# Altium schematic symbol library Sirius.SchLib: 69 symbols (part 1 of 2)
Pins are listed as number, name and electrical type; pins without a type are passive.

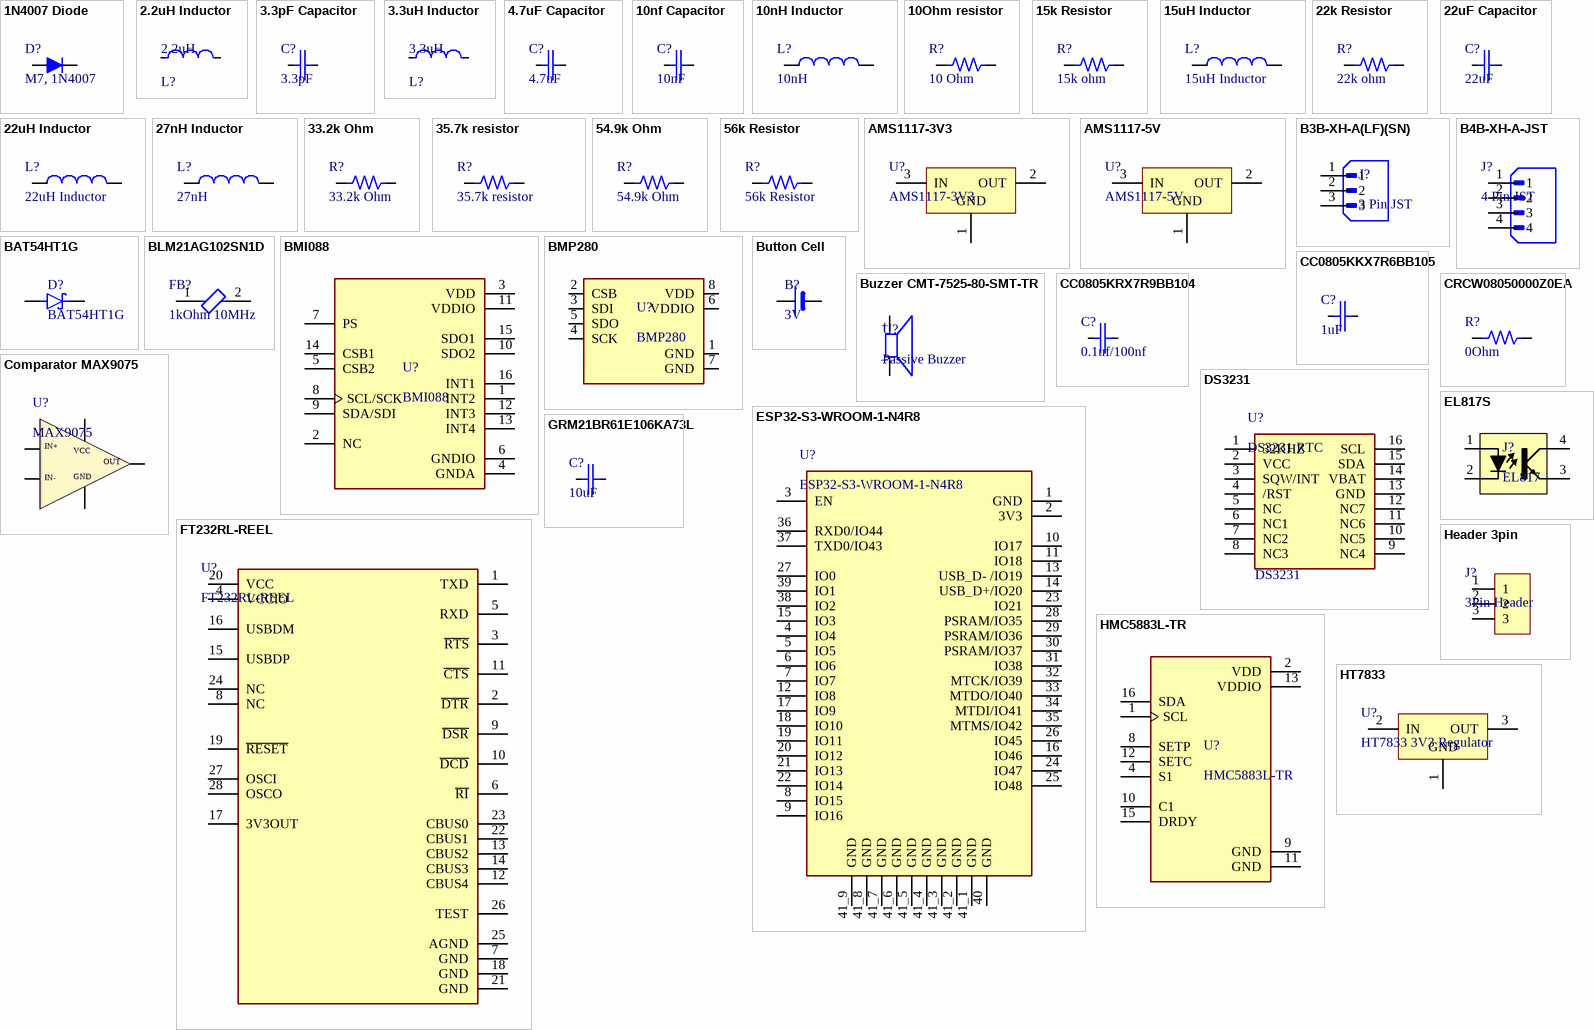
[diagram p0: symbols 1N4007 Diode to HT7833]

## 1N4007 Diode
designator D?, comment M7, 1N4007
1N4007 Diode
footprint 1N4007
pins: A, C

## 2.2uH Inductor
designator L?, comment 2.2uH
SWPA4030S2R2MT-Sunlord-2.2uH 2.95A 20% 39mOhm Shielded Wirewound Power Inductor SMD; Test Frequency: 1MHz; Max DC Current: 600mA; Core Material: Ferrite; DC Resistance (DCR): 340mR; Self Resonant Frequency: 50MHz; RoHS Compliant: Yes; Height: 0.5mm; Inductance: 2.2uH; Mount: Surface Mount; REACH SVHC: No SVHC; Width: 0.049inch; Military Standard: Not; Max Operating Temperature: 125°C; Lead Free: Lead Free; Tolerance: 20%; Series: LQM21PN_CO; Case Code (Imperial): 0805; Case Code (Metric): 2012; Length: 2mm; Package Quantity: 4000; Radiation Hardening: No; Termination: SMD/SMT; Inductance Tolerance: 20%; Rated Current-Max: 600mA; Current Rating: 600mA; Min Operating Temperature: -55°C; Case/Package: 0805; Height - Seated (Max): 0.022inch; Depth: 1.45mm; Packaging: Tape and Reel; Shielding: Shielded; DC Current: 600mA
footprint SWPA4030S (Precision Wire Wound Inductor, 2-Leads, Body 4.00x4.00mm, IPC Medium Density)
pins: 1, 2

## 3.3pF Capacitor
designator C?, comment 3.3pF
0402
footprint 3.3pF (0402)
pins: 1, 2

## 3.3uH Inductor
designator L?, comment 3.3uH
SWPA5020S3R3MT-Sunlord-3.3uH 2.5A 20% 56mOhm Shielded Wirewound Power Inductor SMD; Test Frequency: 1MHz; Inductance: 2.2uH; Max DC Current: 600mA; Core Material: Ferrite; DC Resistance (DCR): 340mR; Self Resonant Frequency: 50MHz; RoHS Compliant: Yes; Height: 0.5mm; Mount: Surface Mount; REACH SVHC: No SVHC; Width: 0.049inch; Military Standard: Not; Max Operating Temperature: 125°C; Lead Free: Lead Free; Tolerance: 20%; Series: LQM21PN_CO; Case Code (Imperial): 0805; Case Code (Metric): 2012; Length: 2mm; Package Quantity: 4000; Radiation Hardening: No; Termination: SMD/SMT; Inductance Tolerance: 20%; Rated Current-Max: 600mA; Current Rating: 600mA; Min Operating Temperature: -55°C; Case/Package: 0805; Height - Seated (Max): 0.022inch; Depth: 1.45mm; Packaging: Tape and Reel; Shielding: Shielded; DC Current: 600mA
footprint SWPA5020 (Precision Wire Wound Inductor, 2-Leads, Body 4.00x4.00mm, IPC Medium Density)
pins: 1, 2

## 4.7uF Capacitor
designator C?, comment 4.7uF
0603, 25V
footprint 1k 0805 Resistor (0805 Chip Resistor, 2-Leads, Body 2.1x1.35mm, IPC Low Density)
pins: 1, 2

## 10nf Capacitor
designator C?, comment 10nF
TCC0402X7R103J500AT-CCTC-SMT ceramic capacitors 0402 X7R 103J(10nF)±5.0% Rated voltage:50V thickness:0.50mm tape
footprint 3.3pF (0402)
pins: 1, 2

## 10nH Inductor
designator L?, comment 10nH
0402
footprint 0402 10nH (0402 10nH, INDC1005X55N)
pins: 1, 2

## 10Ohm resistor
designator R?, comment 10 Ohm
0805
footprint 1k 0805 Resistor (0805 Chip Resistor, 2-Leads, Body 2.1x1.35mm, IPC Low Density)
pins: 1, 2

## 15k Resistor
designator R?, comment 15k ohm
0805
footprint 1k 0805 Resistor (0805 Chip Resistor, 2-Leads, Body 2.1x1.35mm, IPC Low Density)
pins: 1, 2

## 15uH Inductor
designator L?
MWSA0605S
footprint 15uH Inductor (MWSA0605)
pins: 1, 2

## 22k Resistor
designator R?, comment 22k ohm
0805
footprint 1k 0805 Resistor (0805 Chip Resistor, 2-Leads, Body 2.1x1.35mm, IPC Low Density)
pins: 1, 2

## 22uF Capacitor
designator C?, comment 22uF
CL21A226KOQNNNE-Samsang-16V 22uF X5R ±10% 0805 Multilayer Ceramic Capacitors MLCC – SMD/SMT ROHS
footprint 10uf Capacitor
pins: 1, 2

## 22uH Inductor
designator L?
ASPI-0630LR-220M-T15-Abracon-22uH 2.5A 20% Molding Type Power Inductor SMD 7.2×6.65×3.0mm
footprint 22uH inductor (ASPI-0630LR-150M-T15)
pins: 1, 2

## 27nH Inductor
designator L?, comment 27nH
0402
footprint 0402 10nH (0402 10nH, INDC1005X55N)
pins: 1, 2

## 33.2k Ohm
designator R?
0805
footprint 1k 0805 Resistor (0805 Chip Resistor, 2-Leads, Body 2.1x1.35mm, IPC Low Density)
pins: 1, 2

## 35.7k resistor
designator R?
0603
footprint 1k 0805 Resistor (0805 Chip Resistor, 2-Leads, Body 2.1x1.35mm, IPC Low Density)
pins: 1, 2

## 54.9k Ohm
designator R?
0805
footprint 1k 0805 Resistor (0805 Chip Resistor, 2-Leads, Body 2.1x1.35mm, IPC Low Density)
pins: 1, 2

## 56k Resistor
designator R?
0805
footprint 1k 0805 Resistor (0805 Chip Resistor, 2-Leads, Body 2.1x1.35mm, IPC Low Density)
pins: 1, 2

## AMS1117-3V3
designator U?
SOT89
footprint AMS1117, 5V (SOT89)
pins: 1 GND (power), 2 OUT (power), 3 IN (power)

## AMS1117-5V
designator U?
SOT89
footprint AMS1117, 5V (SOT89)
pins: 1 GND (power), 2 OUT (power), 3 IN (power)

## B3B-XH-A(LF)(SN)
designator J?, comment 3 Pin JST
Connector Header Through Hole 3 position 0.098 (2.50mm); MF: JST Sales; MP: B3B-XH-A(LF)(SN); SnapEDA_Link: https://www.snapeda.com/parts/B3B-XH-A(LF)(SN)/JST+Sales+America+Inc./view-part/?ref=snap; Package: None; Value: *; Check_prices: https://www.snapeda.com/parts/B3B-XH-A(LF)(SN)/JST+Sales+America+Inc./view-part/?ref=eda
footprint JST_B3B-XH-A(LF)(SN)
pins: 1, 2, 3

## B4B-XH-A-JST
designator J?, comment 4 Pin JST
Board Connector, 4 Contact(s), 1 Row(s), Male, Straight, Solder Terminal,; Manufacturer Part Number: B4B-XH-A; Supplier: Digikey; Supplier Part Number: 455-B4B-XH-A-ND; Manufacturer: JST; RoHS: Yes; Category: FFC / FPC; Stock: 199106; Pricing: 1=0.17, 10=0.149, 100=0.1262, 500=0.1126, 1000=0.10721, 5000=0.09569, 10000=0.09112 (USD); Orientation: 5491OrientationType; ComponentLink1URL: https://datasheet.ciiva.com/14155/xh-series-eng-tds-14155433.pdf?src-supplier=Distrelec; ComponentLink1Description: https://datasheet.ciiva.com/14155/xh-series-eng-tds-14155433.pdf?src-supplier=Distrelec
footprint JST_B4B-XH-A
pins: 1, 2, 3, 4

## BAT54HT1G
designator D?
BAT54HT1G-ONSEMI-BAT54HT1G-Small Signal Schottky Diode, Single, 30 V, 200 mA, 800 mV, 600 mA, 150 °C; MF: Infineon Technologies; MP: BAS3010A03WE6327HTSA1; Price: None; Mouser-Purchase-URL: https://snapeda.com/shop?store=Mouser&id=447647; Value: *; Arrow_Electronics-Purchase-URL: https://snapeda.com/shop?store=Arrow+Electronics&id=447647; Package: SOD-323 Infineon; DigiKey-Purchase-URL: https://snapeda.com/shop?store=DigiKey&id=447647; SnapEDA_Link: https://www.snapeda.com/parts/BAS3010A03WE6327HTSA1/Infineon%20Technologies/view-part/447647/?ref=snap; Availability: Unavailable
footprint SOD2513X110N
pins: A, C K

## BLM21AG102SN1D
designator FB?, comment 1kOhm 10MHz
Ferrite Beads Multi-Layer 1KOhm 25% 100MHz 600mA 270mOhm DCR 0805 T/R; Manufacturer: Murata; Manufacturer Part Number: BLM21AG102SN1D; Material: Steel,Ferrite; Impedance: 1kR; Max Current Rating: 500mA; Max DC Current: 200mA; DC Resistance (DCR): 280mR; Number of Lines: 1; Shielding: Unshielded; ESR: 270mR; Supplier: Mouser; Supplier Part Number: 81-BLM21AG102SN1; RoHS: Yes; Category: Ferrite Beads and Chips; Stock: 100884; Pricing: 1=0.16, 10=0.083, 50=0.083, 100=0.064, 1000=0.055, 10000=0.038 (USD); Case/Package: 0805; Pins: 2; Core Material: Ferrite; Case Code (Metric): 2012; Case Code (Imperial): 0805; Weight: 0.000194oz; Min Operating Temperature: -55°C; Max Operating Temperature: 125°C; Tolerance: 25%; Package Quantity: 1; Packaging: Tape and Reel; Current Rating: 500mA; Termination: SMD/SMT; Test Frequency: 100MHz; DC Current: 200mA; Frequency: 100MHz; Number of Circuits: 1; Series: BLM21A; DC Resistance-Max: 280mR; RMS Current (Irms): 600mA; Length: 2mm; Width: 1.25mm; Height: 0.85mm; Depth: 1.25mm; Radiation Hardening: No; Reach SVHC Compliant: No; Military Standard: Not; Lead Free: Lead Free; RoHS Compliant: Yes; ComponentLink1URL: https://datasheet.ciiva.com/19454/1845136-19454717.pdf?src-supplier=Jameco; ComponentLink1Description: https://datasheet.ciiva.com/19454/1845136-19454717.pdf?src-supplier=Jameco; ComponentLink2URL: https://datasheet.ciiva.com/41449/001172322-da-01-en-drossel-0805-1000r-2-0x1-25mm-4000st-41449636.pdf?src-supplier=Conrad; ComponentLink2Description: https://datasheet.ciiva.com/41449/001172322-da-01-en-drossel-0805-1000r-2-0x1-25mm-4000st-41449636.pdf?src-supplier=Conrad; ComponentLink3URL: https://datasheet.ciiva.com/29347/442432-da-01-en-chip-drossel-0805-1000r-200ma-2-0x1-25mm-29347996.pdf?src-supplier=Conrad; ComponentLink3Description: https://datasheet.ciiva.com/29347/442432-da-01-en-chip-drossel-0805-1000r-200ma-2-0x1-25mm-29347996.pdf?src-supplier=Conrad; ComponentLink4URL: https://datasheet.ciiva.com/3082/l0110s0100blm21a-3082728.pdf?src-supplier=Avnet; ComponentLink4Description: https://datasheet.ciiva.com/3082/l0110s0100blm21a-3082728.pdf?src-supplier=Avnet; ComponentLink5URL: https://datasheet.ciiva.com/8021/l0110s0100blm21a-8021548.pdf?src-supplier=Element14; ComponentLink5Description: https://datasheet.ciiva.com/8021/l0110s0100blm21a-8021548.pdf?src-supplier=Element14; ComponentLink6URL: https://datasheet.ciiva.com/8021/l0110s0100blm21a-8021550.pdf?src-supplier=Element14; ComponentLink6Description: https://datasheet.ciiva.com/8021/l0110s0100blm21a-8021550.pdf?src-supplier=Element14; ComponentLink7URL: https://datasheet.ciiva.com/6212/l0110s0100blm21a-6212347.pdf?src-supplier=Digikey; ComponentLink7Description: https://datasheet.ciiva.com/6212/l0110s0100blm21a-6212347.pdf?src-supplier=Digikey; ComponentLink8URL: https://datasheet.ciiva.com/6212/l0110s0100blm21a-6212345.pdf?src-supplier=Digikey; ComponentLink8Description: https://datasheet.ciiva.com/6212/l0110s0100blm21a-6212345.pdf?src-supplier=Digikey; ComponentLink9URL: https://datasheet.ciiva.com/6212/l0110s0100blm21a-6212318.pdf?src-supplier=Digikey; ComponentLink9Description: https://datasheet.ciiva.com/6212/l0110s0100blm21a-6212318.pdf?src-supplier=Digikey
footprint 1kOhm Ferrite bead 0402 (GZ1005U102CTF-SUNLORD-580mΩ ±25% 1kΩ@100MHz 0402 Ferrite Beads ROHS)
pins: 1, 2

## BMI088
designator U?
High-performance 6-axis inertial sensor (accelerometer + gyroscope) <a href="https://pricing.snapeda.com/parts/BMI088/Bosch%20Sensortec/view-part?ref=eda">Check prices</a>; Package: None; MP: BMI088; Value: *; Availability: Unavailable; Price: None
footprint BMI088 (IMU 6DOF)
pins: 1 INT2, 2 NC, 3 VDD, 4 GNDA, 5 CSB2, 6 GNDIO, 7 PS, 8 SCL/SCK, 9 SDA/SDI, 10 SDO2, 11 VDDIO, 12 INT3, 13 INT4, 14 CSB1, 15 SDO1, 16 INT1

## BMP280
designator U?
BMP280 Absolute Barometric Pressure Sensor for Battery Powered Devices 2 x 2.5mm; Package: None; Availability: Unavailable; MP: BMP280; Value: *; Price: None
footprint BMP280
pins: 1 GND, 2 CSB, 3 SDI, 4 SCK, 5 SDO, 6 VDDIO, 7 GND, 8 VDD

## Button Cell
designator B?, comment 3V
CR2032 Button Cell
footprint Battery Holder
pins: N, P

## Buzzer CMT-7525-80-SMT-TR
designator U?, comment Passive Buzzer
7.5 mm, 3.6 Vo-p, 80 dB, Surface Mount (SMT), Magnetic Audio Transducer Buzzer; MF: CUI Devices; MP: CMT-7525-80-SMT-TR; Value: *; Digi-Key_Part_Number: 102-CMT-7525-80-SMT-TR-ND; SnapEDA_Link: https://www.snapeda.com/parts/CMT-7525-80-SMT-TR/CUI+Devices/view-part/?ref=snap; Check_prices: https://www.snapeda.com/parts/CMT-7525-80-SMT-TR/CUI+Devices/view-part/?ref=eda; CUI_purchase_URL: https://www.cuidevices.com/product/audio/buzzers/audio-transducers/cmt-7525-80-smt-tr?utm_source=snapeda.com&utm_medium=referral&utm_campaign=snapedaBOM; Purchase-URL: https://pricing.snapeda.com/search/part/CMT-7525-80-SMT-TR/?ref=eda; Package: CUI Devices
footprint BuzzerCMT-7525-80-SMT-TR (Passive Buzzer)
pins: N, P
text: +; _

## CC0805KKX7R6BB105
designator C?, comment 1uF
1uF, Ceramic Capacitor, Multilayer, Ceramic, 10V, 10% +Tol, 10% -Tol, X7R, 15% TC,Surface Mount, 0805; Manufacturer: Yageo; Manufacturer Part Number: CC0805KKX7R6BB105; Multilayer: Yes; Supplier: Future Electronics; Supplier Part Number: 2015429; RoHS: Yes; Category: Ceramic Capacitors; Stock: 114000; Pricing: 3000=0.0123, 9000=0.012, 30000=0.0117, 60000=0.0116, 120000=0.0112 (USD); Mounting Technology: Surface Mount; Pins: 2; Dielectric Material: Ceramic; Package Shape: Rectangular; Case/Package: 0805; Terminal Finish: Nickel; Min Operating Temperature: -55°C; Max Operating Temperature: 125°C; JESD-609 Code: e3; Value: 1uF; Capacitor Type: Ceramic; Tolerance  (fill in as +-): 10%; Packaging: Tape and Reel; Tolerance (fill in as +-): 10%; Rated DC Voltage (URdc): 10V; Temperature Characteristics Code: X7R; Termination: Wraparound; Package Style: SMTMeter; Length: 2mm; Width: 1.25mm; Height: 1.25mm; Reach SVHC Compliant: Yes; RoHS Compliant: Yes; ComponentLink1URL: https://datasheet.ciiva.com:443/pdfs/VipMasterIC/IC/YAGO/YAGO-S-A0003557223/YAGO-S-A0003557223-1.pdf?src-supplier=IHS+Markit; ComponentLink1Description: https://datasheet.ciiva.com:443/pdfs/VipMasterIC/IC/YAGO/YAGO-S-A0003557223/YAGO-S-A0003557223-1.pdf?src-supplier=IHS+Markit
footprint 10uf Capacitor
pins: 1, 2

## CC0805KRX7R9BB104
designator C?, comment 0.1uf/100nf
0.1 uF, Multilayer Ceramic Capacitor, 50 V, ï¿½ 10%, X7R, 0805 [2012 Metric]; Manufacturer: Yageo; Manufacturer Part Number: CC0805KRX7R9BB104; Value: 100nF; Voltage Rating: 50V; Insulation Resistance: 100GR; Supplier: Future Electronics; Supplier Part Number: 2986263; RoHS: Yes; Category: Ceramic Capacitors; Stock: 2884000; Pricing: 4000=0.009, 12000=0.0088, 40000=0.0085, 80000=0.0083, 160000=0.008 (USD); Mounting Technology: Surface Mount; Case/Package: 0805; Pins: 2; Case Code (Metric): 2012; Case Code (Imperial): 0805; Material: Ceramic; Min Operating Temperature: -55°C; Max Operating Temperature: 125°C; Packaging: Tape and Reel; Tolerance: 10%; Dielectric: X7R; Series: CC; Package Quantity: 4000; Voltage: 50V; Termination: SMD/SMT; Length: 2mm; Height: 0.85mm; Depth: 1.25mm; Radiation Hardening: No; RoHS Compliant: Yes; Lead Free: 5697LeadFree; Reach SVHC Compliant: No; Halogen Free: 5694HalogenFree
footprint 0.1uF Capacitor (0.1uf/100nf, FP-CC0805-0_85-MFG)
pins: 1, 2

## Comparator MAX9075
designator U?, comment MAX9075
Comparator MAX9075 SOT23-5
footprint Comparator MAX9075 (SOT23, 5-Leads, Body 2.90x2.45mm, Pitch 0.95mm, IPC Medium Density)
pins: GND 27, IN+ 28, IN- 25, OUT 26, VCC 24

## CRCW08050000Z0EA
designator R?, comment 0Ohm
0 Ohm Resistor, Jumper, 0805 [2012 Metric], Thick Film, 125 mW, Surface Mount; Manufacturer: Vishay; Manufacturer Part Number: CRCW08050000Z0EA; Value: 0mR; Power Rating: 125mW; Temperature Coefficient: 100ppm/°C; Voltage Rating: 150V; Tolerance: 1%; Supplier: Arrow Electronics; Supplier Part Number: CRCW08050000Z0EA; RoHS: Yes; Category: Chip SMD Resistors; Stock: 1390000; Pricing: 5000=0.0051, 10000=0.005, 15000=0.0049, 25000=0.0045 (USD); Case/Package: 0805; Case Code (Imperial): 0805; Case Code (Metric): 2012; Contact Plating: Tin; Weight: 0.000194oz; Min Operating Temperature: -55°C; Max Operating Temperature: 155°C; Packaging: Tape and Reel; Series: CRCW; Number of Terminations: 2; Resistor Type: Thick Film; Termination: SMD/SMT; Max Power Dissipation: 125mW; Package Quantity: 1; Features: Automotive AEC-Q200; Construction: Rectangular; Technology: THICK FILM; Voltage Rating (DC): 150V; Resistance Tolerance: 1%; Length: 2mm; Width: 0.049inch; Height: 0.45mm; Depth: 1.25mm; Radiation Hardening: No; RoHS Compliant: Yes; Military Standard: Not; Reach SVHC Compliant: Unknown; Lead Free: 5697LeadFree; ComponentLink1URL: https://datasheet.ciiva.com/11811/0900766b80d98b26-11811304.pdf?src-supplier=Rs; ComponentLink1Description: https://datasheet.ciiva.com/11811/0900766b80d98b26-11811304.pdf?src-supplier=Rs; ComponentLink2URL: https://datasheet.ciiva.com/7841/1720486-7841839.pdf?src-supplier=Element14; ComponentLink2Description: https://datasheet.ciiva.com/7841/1720486-7841839.pdf?src-supplier=Element14; ComponentLink3URL: https://datasheet.ciiva.com/26314/fld-crcw-e3-data-en-26314630.pdf?src-supplier=Distrelec; ComponentLink3Description: https://datasheet.ciiva.com/26314/fld-crcw-e3-data-en-26314630.pdf?src-supplier=Distrelec; ComponentLink4URL: https://datasheet.ciiva.com/7841/1697337-7841629.pdf?src-supplier=Element14; ComponentLink4Description: https://datasheet.ciiva.com/7841/1697337-7841629.pdf?src-supplier=Element14; ComponentLink5URL: https://datasheet.ciiva.com/2463/dcrcwe3-2463038.pdf?src-supplier=Digikey; ComponentLink5Description: https://datasheet.ciiva.com/2463/dcrcwe3-2463038.pdf?src-supplier=Digikey; ComponentLink6URL: https://datasheet.ciiva.com/2463/dcrcwe3-2463039.pdf?src-supplier=Digikey; ComponentLink6Description: https://datasheet.ciiva.com/2463/dcrcwe3-2463039.pdf?src-supplier=Digikey; ComponentLink7URL: https://datasheet.ciiva.com/2463/dcrcwe3-2463037.pdf?src-supplier=Digikey; ComponentLink7Description: https://datasheet.ciiva.com/2463/dcrcwe3-2463037.pdf?src-supplier=Digikey; ComponentLink8URL: https://datasheet.ciiva.com/16719/70201119-16719706.pdf?src-supplier=Allied+Electronics; ComponentLink8Description: https://datasheet.ciiva.com/16719/70201119-16719706.pdf?src-supplier=Allied+Electronics; ComponentLink9URL: https://datasheet.ciiva.com/5543/dcrcwe3-109170-5543096.pdf?src-supplier=Mouser; ComponentLink9Description: https://datasheet.ciiva.com/5543/dcrcwe3-109170-5543096.pdf?src-supplier=Mouser; ComponentLink10URL: https://datasheet.ciiva.com/16389/dcrcwe3-16389338.pdf?src-supplier=Future+Electronics; ComponentLink10Description: https://datasheet.ciiva.com/16389/dcrcwe3-16389338.pdf?src-supplier=Future+Electronics
footprint 1k 0805 Resistor (0805 Chip Resistor, 2-Leads, Body 2.1x1.35mm, IPC Low Density)
pins: 1, 2

## DS3231
designator U?, comment DS3231 RTC
Real Time Clock (RTC) IC Clock/Calendar - IÂ²C, 2-Wire Serial 8-SOIC (0.154, 3.90mm Width); MF: Maxim Integrated; Check_prices: https://www.snapeda.com/parts/DS3231/Maxim+Integrated/view-part/?ref=eda; Value: *; Availability: In Stock; MP: DS3231; Price: None; Package: SOIC-16 Maxim Integrated; SnapEDA_Link: https://www.snapeda.com/parts/DS3231/Maxim+Integrated/view-part/?ref=snap; Purchase-URL: https://pricing.snapeda.com/search/part/DS3231/?ref=eda
footprint DS3231 (RTC)
pins: 1 32KHZ, 2 VCC, 3 SQW/INT, 4 /RST, 5 NC, 6 NC1, 7 NC2, 8 NC3, 9 NC4, 10 NC5, 11 NC6, 12 NC7, 13 GND, 14 VBAT, 15 SDA, 16 SCL

## EL817S
designator J?, comment EL817
Optoisolator Transistor Output 5000Vrms 1 Channel 4-SMD; MF: Everlight Electronics; MP: EL817S; SnapEDA_Link: https://www.snapeda.com/parts/EL817S/Everlight+Electronics+Co+Ltd/view-part/?ref=snap; Package: SMD-4 Everlight Electronics Co Ltd; Value: *; Check_prices: https://www.snapeda.com/parts/EL817S/Everlight+Electronics+Co+Ltd/view-part/?ref=eda
footprint Optocoupler EL817
pins: 1 A, 2 C, 3 EMIT, 4 COL

## ESP32-S3-WROOM-1-N4R8
designator U?
SMD Module, ESP32-S3, 4 mb Spi F; Manufacturer: Espressif Systems; Supplier: Digikey; Supplier Part Number: 1965-ESP32-S3-WROOM-1-N4CT-ND; Manufacturer Part Number: ESP32-S3-WROOM-1-N4; RoHS: No; Category: LDO; Stock: 2269; Pricing: 1=2.95 (USD); ComponentLink1URL: https://datasheet.octopart.com/ESP32-S3-WROOM-1-N4-Espressif-Systems-datasheet-165560563.pdf?src-supplier=TME; ComponentLink1Description: https://datasheet.octopart.com/ESP32-S3-WROOM-1-N4-Espressif-Systems-datasheet-165560563.pdf?src-supplier=TME
footprint ESP32-S3-WROOM-1-N4
pins: 1 GND, 2 3V3, 3 EN, 4 IO4, 5 IO5, 6 IO6, 7 IO7, 8 IO15, 9 IO16, 10 IO17, 11 IO18, 12 IO8, 13 USB_D- /IO19, 14 USB_D+/IO20, 15 IO3, 16 IO46, 17 IO9, 18 IO10, 19 IO11, 20 IO12, 21 IO13, 22 IO14, 23 IO21, 24 IO47, 25 IO48, 26 IO45, 27 IO0, 28 PSRAM/IO35, 29 PSRAM/IO36, 30 PSRAM/IO37, 31 IO38, 32 MTCK/IO39, 33 MTDO/IO40, 34 MTDI/IO41, 35 MTMS/IO42, 36 RXD0/IO44, 37 TXD0/IO43, 38 IO2, 39 IO1, 40 GND, 41_1 GND, 41_2 GND, 41_3 GND, 41_4 GND, 41_5 GND, 41_6 GND, 41_7 GND, 41_8 GND, 41_9 GND

## FT232RL-REEL
designator U?
USB Bus Controller, CMOS, PDSO28; Manufacturer: FTDI; Package Body Material: Plastic; Clock Frequency: 48MHz; Max Supply Current: 100uA; Max Supply Voltage: 5.25V; Min Supply Voltage: 3.3V; Qualification Status: Not Qualified; Supplier: Digikey; Supplier Part Number: 768-1007-1-ND; Manufacturer Part Number: FT232RL-REEL; RoHS: Yes; Category: Interface ICs; Stock: 4321; Pricing: 1=4.8, 10=4.35, 50=4.15, 100=3.95, 250=3.55, 500=3.15002, 1000=2.95001, 2000=2.95002 (USD); Case/Package: SSOP; Pins: 28; Package Shape: Rectangular; Min Operating Temperature: -40°C; Max Operating Temperature: 85°C; JESD-30 Code: R-PDSO-G28; Moisture Sensitivity Level: 3; Package Style: SMALL OUTLINE, SHRINK PITCHMeter; Surface Mount: Yes; Technology: CMOS; Terminal Form: Gull Wing; Terminal Position: DUAL; Length: 10.2mm; Width: 5.3mm; Height - Seated (Max): 2mm; Terminal Pitch: 0.65mm; Temperature Grade: INDUSTRIAL; Reach SVHC Compliant: Yes; RoHS Compliant: Yes; ComponentLink1URL: https://datasheet.ciiva.com:443/pdfs/VipMasterIC/IC/FTDI/FTDI-S-A0007980421/FTDI-S-A0007980421-1.pdf?src-supplier=IHS+Markit; ComponentLink1Description: https://datasheet.ciiva.com:443/pdfs/VipMasterIC/IC/FTDI/FTDI-S-A0007980421/FTDI-S-A0007980421-1.pdf?src-supplier=IHS+Markit; ComponentLink2URL: https://datasheet.ciiva.com/4787/ds-ft232r-11534-4787658.pdf?src-supplier=Mouser; ComponentLink2Description: https://datasheet.ciiva.com/4787/ds-ft232r-11534-4787658.pdf?src-supplier=Mouser; ComponentLink3URL: https://datasheet.ciiva.com/15150/getdatasheetpartid-643207-15150506.pdf?src-supplier=Verical; ComponentLink3Description: https://datasheet.ciiva.com/15150/getdatasheetpartid-643207-15150506.pdf?src-supplier=Verical; ComponentLink4URL: https://datasheet.ciiva.com/1787/ds-ft232r-1787048.pdf?src-supplier=Digikey; ComponentLink4Description: https://datasheet.ciiva.com/1787/ds-ft232r-1787048.pdf?src-supplier=Digikey; ComponentLink5URL: https://datasheet.ciiva.com/1787/ds-ft232r-1787047.pdf?src-supplier=Digikey; ComponentLink5Description: https://datasheet.ciiva.com/1787/ds-ft232r-1787047.pdf?src-supplier=Digikey; ComponentLink6URL: https://datasheet.ciiva.com/1787/ds-ft232r-1787049.pdf?src-supplier=Digikey; ComponentLink6Description: https://datasheet.ciiva.com/1787/ds-ft232r-1787049.pdf?src-supplier=Digikey; ComponentLink7URL: https://datasheet.ciiva.com/16200/ds-ft232r-16200652.pdf?src-supplier=Future+Electronics; ComponentLink7Description: https://datasheet.ciiva.com/16200/ds-ft232r-16200652.pdf?src-supplier=Future+Electronics
footprint FP-SSOP-28-IPC_B
pins: 1 TXD, 2 ~{DTR}, 3 ~{RTS}, 4 VCCIO, 5 RXD, 6 ~{RI}, 7 GND, 8 NC, 9 ~{DSR}, 10 ~{DCD}, 11 ~{CTS}, 12 CBUS4, 13 CBUS2, 14 CBUS3, 15 USBDP, 16 USBDM, 17 3V3OUT, 18 GND, 19 ~{RESET}, 20 VCC, 21 GND, 22 CBUS1, 23 CBUS0, 24 NC, 25 AGND, 26 TEST, 27 OSCI, 28 OSCO

## GRM21BR61E106KA73L
designator C?, comment 10uF
10uF, Multilayer Ceramic Capacitor, 25 V, ï¿½ 10%, X5R, 0805 [2012 Metric]; Manufacturer: Murata; Manufacturer Part Number: GRM21BR61E106KA73L; Voltage Rating: 25V; Supplier: Mouser; Supplier Part Number: 81-GRM21BR61E106KA3L; RoHS: Yes; Category: Ceramic Capacitors; Stock: 165824; Pricing: 1=0.13, 10=0.038, 50=0.038, 100=0.035, 1000=0.035, 10000=0.027 (USD); Mounting Technology: Surface Mount; Case/Package: 0805; Case Code (Metric): 2012; Case Code (Imperial): 0805; Material: Ceramic; Min Operating Temperature: -55°C; Max Operating Temperature: 85°C; Package Quantity: 1; Value: 10uF; Tolerance: 10%; Packaging: Tape and Reel; Voltage Rating (DC): 25V; Dielectric: X5R; Termination: SMD/SMT; Series: GRM; Voltage: 25V; Construction: Flat; Length: 2mm; Width: 0.049inch; Height: 1.25mm; Thickness: 0.053inch; Depth: 1.25mm; RoHS Compliant: Yes; Lead Free: 5697LeadFree; Reach SVHC Compliant: No; ComponentLink1URL: https://datasheet.ciiva.com/14116/grmseries-highdielectrictype-eng-14116376.pdf?src-supplier=Distrelec; ComponentLink1Description: https://datasheet.ciiva.com/14116/grmseries-highdielectrictype-eng-14116376.pdf?src-supplier=Distrelec; ComponentLink2URL: https://datasheet.ciiva.com/7719/1747469-7719093.pdf?src-supplier=Element14; ComponentLink2Description: https://datasheet.ciiva.com/7719/1747469-7719093.pdf?src-supplier=Element14
footprint 10uf Capacitor
pins: 1, 2

## Header 3pin
designator J?, comment 3Pin Header
footprint 3 Pin Header
pins: 1, 2, 3

## HMC5883L-TR
designator U?
Board Mount Hall Effect / Magnetic Sensors Sensors, Transducers Magnetic - Hall Effect, Digital Switch, Linear, Compass (ICs) - IC COMPASS 3 AXIS I2C 16LCC SMD; MF: STMicroelectronics; MP: HMC5883LTR; Price: None; SnapEDA_Link: https://www.snapeda.com/parts/HMC5883LTR/STMicroelectronics/view-part/?ref=snap; Check_prices: https://www.snapeda.com/parts/HMC5883LTR/STMicroelectronics/view-part/?ref=eda; Package: LCC-16 STMicroelectronics; Availability: Not in stock; Value: *
footprint HMC5883L-TR
pins: 1 SCL, 2 VDD, 4 S1, 8 SETP, 9 GND, 10 C1, 11 GND, 12 SETC, 13 VDDIO, 15 DRDY, 16 SDA

## HT7833
designator U?, comment HT7833 3V3 Regulator
3V3 Voltage Regulator
footprint HT7833 (SOT89, 3-Leads, Body 4.54x2.49mm, Pitch 1.50mm, Lead Span 3.5mm, IPC Medium Density)
pins: 1 GND (power), 2 IN (power), 3 OUT (power)

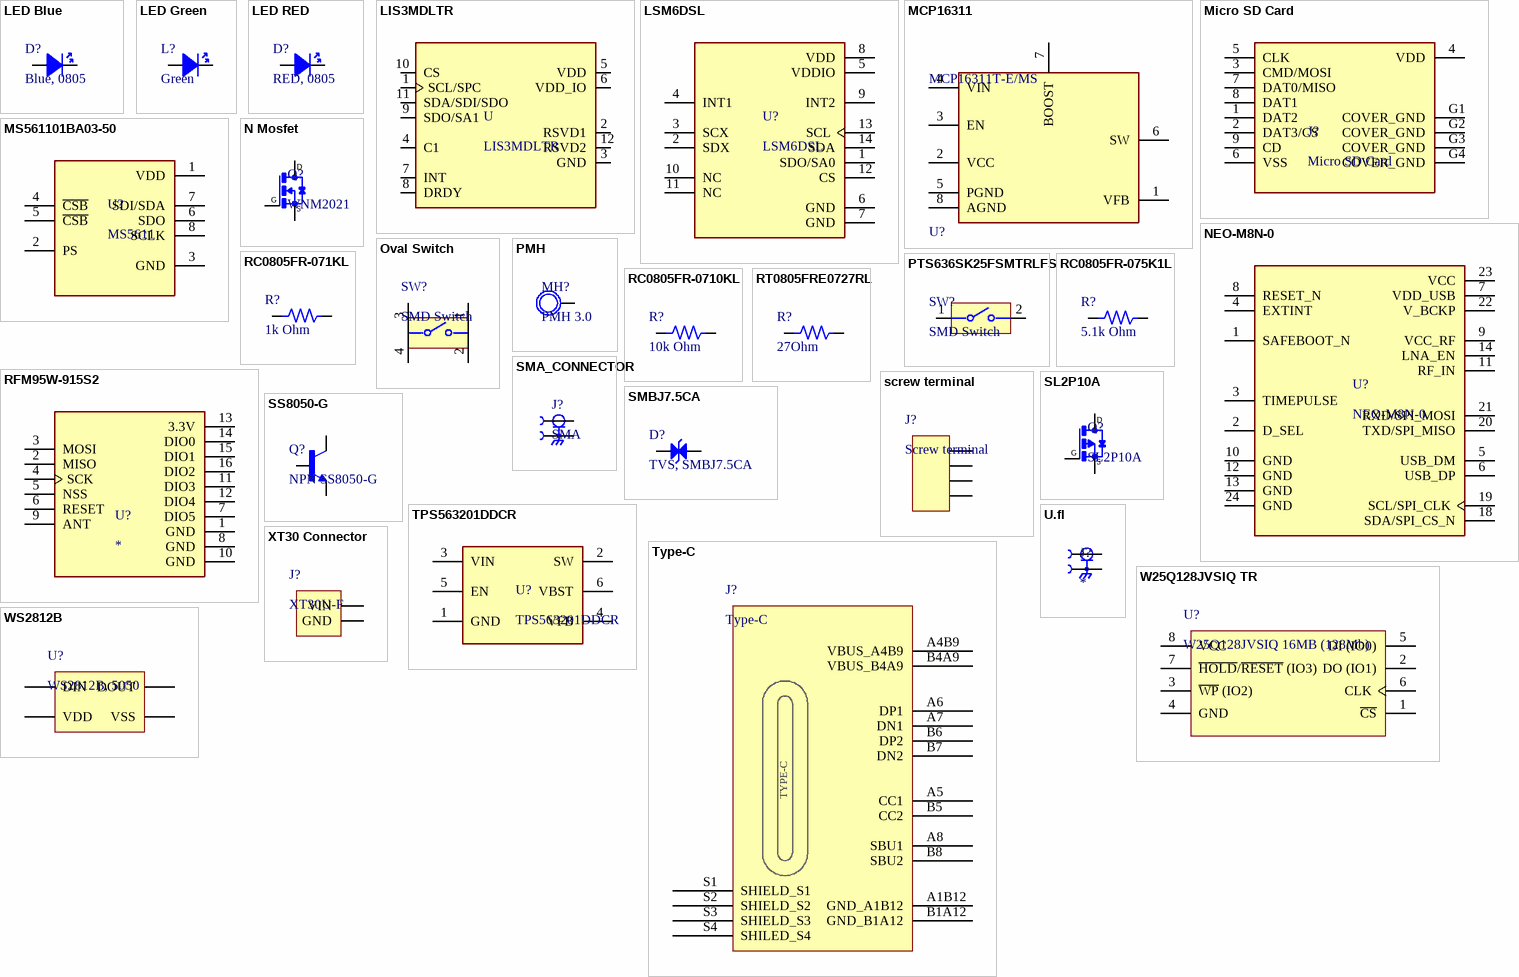
[diagram p1: symbols LED Blue to XT30 Connector]

## LED Blue
designator D?, comment Blue, 0805
footprint led blue (0805)
pins: A 1, C 2

## LED Green
designator L?, comment Green
Green 0805
footprint LED Green (0805)
pins: A 1, C 2

## LED RED
designator D?, comment RED, 0805
footprint led red (0805)
pins: A 1, C 2

## LIS3MDLTR
designator U
Magnetoresistive Sensor X, Y, Z Axis 12-LGA _2x2_; MF: STMicroelectronics; Availability: Unavailable; Price: None; SnapEDA_Link: https://www.snapeda.com/parts/LIS3MDLTR/STMicroelectronics/view-part/382740/?ref=snap; Package: VFLGA-12 STMicroelectronics; Value: *; MP: LIS3MDLTR
footprint LIS3MDLTR
pins: 1 SCL/SPC, 2 RSVD1, 3 GND, 4 C1, 5 VDD, 6 VDD_IO, 7 INT, 8 DRDY, 9 SDO/SA1, 10 CS, 11 SDA/SDI/SDO, 12 RSVD2

## LSM6DSL
designator U?
Accelerometer, Gyroscope, Temperature, 6 Axis Sensor IÂ²C, SPI Output; MF: STMicroelectronics; MP: LSM6DSO32TR; SnapEDA_Link: https://www.snapeda.com/parts/LSM6DSO32TR/STMicroelectronics/view-part/?ref=snap; Package: VFLGA-14 STMicroelectronics; Value: *; Check_prices: https://www.snapeda.com/parts/LSM6DSO32TR/STMicroelectronics/view-part/?ref=eda
footprint LSM6DSO32TR (IMU)
pins: 1 SDO/SA0, 2 SDX, 3 SCX, 4 INT1, 5 VDDIO, 6 GND, 7 GND, 8 VDD, 9 INT2, 10 NC, 11 NC, 12 CS, 13 SCL, 14 SDA

## MCP16311
designator U?, comment MCP16311T-E/MS
IC REG BUCK ADJUSTABLE 1A 8MSOP; Max Output Current: 800mA; Synchronous Rectifier: Yes; Efficiency: 95%; Max Output Voltage: 24V; Min Output Voltage: 2V; Min Input Voltage: 4.4V; Number of Outputs: 1; Switching Frequency: 500kHz; Operating Supply Voltage: 30V; Output Voltage: 15V; Output Configuration: Positive; Output Type: Adjustable; RoHS Compliant: Yes; Max Operating Temperature: 125°C; Min Operating Temperature: -40°C; Mount: Surface Mount; Package Quantity: 2500; Case/Package: MSOP; Radiation Hardening: No; Packaging: Tape and Reel; Max Input Voltage: 30V; Number of Pins: 8; Weight: 0.004938oz; Output Current: 1A
footprint MCP16311 (Switching Regulator)
pins: 1 VFB, 2 VCC, 3 EN, 4 VIN, 5 PGND, 6 SW, 7 BOOST, 8 AGND

## Micro SD Card
designator J?
Micro SD Card Connector, 9 Positions, Connector and Ejector, Push In, Auto Eject Out, Surface Mount, 1.8 mm Height Above Board, Gold Flash; MF: CUI Devices; MP: MSD-1-A; SnapEDA_Link: https://www.snapeda.com/parts/MSD-1-A/CUI+Devices/view-part/?ref=snap; Package: None; Value: *; CUI_purchase_URL: https://www.cuidevices.com/product/interconnect/connectors/memory-card-connectors/sd-card-connectors/msd-1-a?utm_source=snapeda.com&utm_medium=referral&utm_campaign=snapedaBOM; Check_prices: https://www.snapeda.com/parts/MSD-1-A/CUI+Devices/view-part/?ref=eda
footprint Micro SD Card
pins: 1 DAT2, 2 DAT3/CS, 3 CMD/MOSI, 4 VDD, 5 CLK, 6 VSS, 7 DAT0/MISO, 8 DAT1, 9 CD, G1 COVER_GND, G2 COVER_GND, G3 COVER_GND, G4 COVER_GND

## MS561101BA03-50
designator U?, comment MS5611
Sensor;MS5611-BT M-CAPS 3X5X1MM T&R;Pressure;MS561101BA03-50 | TE Connectivity MS561101BA03-50; SnapEDA_Link: https://www.snapeda.com/parts/MS561101BA03-50/TE+Connectivity+ALCOSWITCH+Switches/view-part/?ref=snap; Package: SMD-8 Measurement Specialties; Value: *; MF: TE Connectivity; MP: MS561101BA03-50; Check_prices: https://www.snapeda.com/parts/MS561101BA03-50/TE+Connectivity+ALCOSWITCH+Switches/view-part/?ref=eda
footprint MS561101BA03-50
pins: 1 VDD, 2 PS, 3 GND, 4 ~{CSB}, 5 ~{CSB}, 6 SDO, 7 SDI/SDA, 8 SCLK

## N Mosfet
designator Q?, comment WNM2021
WNM2021-Slkor-20V 2.3A 86mΩ@2.5V,1A 200mW 1.2V 1 N-channel SOT-323 MOSFETs ROHS; MF: Vishay Siliconix; MP: SI2323DS-T1-E3; SnapEDA_Link: https://www.snapeda.com/parts/SI2323DS-T1-E3/Vishay/view-part/?ref=snap; Package: SOT-23-3 Vishay Siliconix; Value: *; Check_prices: https://www.snapeda.com/parts/SI2323DS-T1-E3/Vishay/view-part/?ref=eda
footprint P Mosfet SL2P10A (SOT23, 3-Leads, Body 2.90x2.45mm, Pitch 0.95mm, IPC Medium Density)
pins: D, G, S

## NEO-M8N-0
designator U?
Ic Receiver Gps/Gnss 24lcc; Package: None; Price: None; Availability: Unavailable; MP: NEO-M8N-0; Value: *
footprint NEO-M8N-0
pins: 1 SAFEBOOT_N, 2 D_SEL, 3 TIMEPULSE, 4 EXTINT, 5 USB_DM, 6 USB_DP, 7 VDD_USB, 8 RESET_N, 9 VCC_RF, 10 GND, 11 RF_IN, 12 GND, 13 GND, 14 LNA_EN, 18 SDA/SPI_CS_N, 19 SCL/SPI_CLK, 20 TXD/SPI_MISO, 21 RXD/SPI_MOSI, 22 V_BCKP, 23 VCC, 24 GND

## Oval Switch
designator SW?, comment SMD Switch
PTS810SJG250SMTRLFS, Keypad Switch, 1 Switches, SPST, Momentary-tactile, 0.05A, 16VDC, 4.9N, Solder Terminal, Surface Mount-straight; Manufacturer: ITT C&K; Actuator Color: Blue; Actuator Type: Pushbutton; Contact Resistance: 0.5mR; Dielectric Withstand Volts: 250VACV; Insulation Resistance: 100MR; Solderability: REFLOW; Actuator Travel: 0.2032mm; Electrical Life: 100000Cycles; Actuator Length: 0.028inch; Supplier: Digikey; Supplier Part Number: CKN10504CT-ND; Manufacturer Part Number: PTS810SJG250SMTRLFS; RoHS: Yes; Category: Tactile Switches; Stock: 44414; Pricing: 1=0.55, 10=0.478, 25=0.452, 100=0.4154, 250=0.39256, 500=0.37598, 1000=0.36001 (USD); Mounting Technology: Surface Mount; Terminal Finish: Silver; Min Operating Temperature: -40°C; Max Operating Temperature: 85°C; Switch Action: MOMENTARY; Switch Function: SPST; Switch Type: Keypad; Termination: Solder; JESD-609 Code: e4; RoHS Compliant: Yes; Reach SVHC Compliant: Yes; ComponentLink1URL: https://datasheet.ciiva.com:443/pdfs/VipMasterIC/IC/CKCI/CKCI-S-A0001404160/CKCI-S-A0001797319-1.pdf?src-supplier=IHS+Markit; ComponentLink1Description: https://datasheet.ciiva.com:443/pdfs/VipMasterIC/IC/CKCI/CKCI-S-A0001404160/CKCI-S-A0001797319-1.pdf?src-supplier=IHS+Markit; ComponentLink2URL: https://datasheet.ciiva.com/18514/pts810-4mar13-18514165.pdf?src-supplier=Digikey; ComponentLink2Description: https://datasheet.ciiva.com/18514/pts810-4mar13-18514165.pdf?src-supplier=Digikey; ComponentLink3URL: https://datasheet.ciiva.com/18514/pts810-4mar13-18514166.pdf?src-supplier=Digikey; ComponentLink3Description: https://datasheet.ciiva.com/18514/pts810-4mar13-18514166.pdf?src-supplier=Digikey; ComponentLink4URL: https://datasheet.ciiva.com/18514/pts810-4mar13-18514167.pdf?src-supplier=Digikey; ComponentLink4Description: https://datasheet.ciiva.com/18514/pts810-4mar13-18514167.pdf?src-supplier=Digikey
footprint Oval Switch (FP-PTS810_SJG_250_SMTR_LF-MFG)
pins: 1, 2, 3, 4

## PMH
designator MH?, comment PMH 3.0
PMH 3.0mm
footprint PMH (3.5mm)
pins: GND

## PTS636SK25FSMTRLFS
designator SW?, comment SMD Switch
Switch Tactile OFF Mom SPST Rectangular Button F-Lead 0.05A 12VDC 2.45N SMD T/R; Manufacturer: ITT C&K; Manufacturer Part Number: PTS636SK25FSMTRLFS; Contact Resistance: 100mR; Number of Positions: 2NUMBER; Supplier: Future Electronics; Supplier Part Number: 2182854; RoHS: No; Category: Tactile Switches; Pricing: 3000=0.108, 6000=0.105 (USD); ComponentLink1URL: https://dznh3ojzb2azq.cloudfront.net/products/Tactile/PTS636/documents/datasheet.pdf?src-supplier=Digikey; ComponentLink1Description: https://dznh3ojzb2azq.cloudfront.net/products/Tactile/PTS636/documents/datasheet.pdf?src-supplier=Digikey; ComponentLink2URL: https://datasheet.octopart.com/PTS636SK25FSMTRLFS-C%26K-Components-datasheet-136360845.pdf?src-supplier=Sager+Electronics; ComponentLink2Description: https://datasheet.octopart.com/PTS636SK25FSMTRLFS-C%26K-Components-datasheet-136360845.pdf?src-supplier=Sager+Electronics; ComponentLink3URL: https://datasheet.octopart.com/PTS636-SK25F-SMTR-LFS-C%26K-Components-datasheet-166147775.pdf?src-supplier=TME; ComponentLink3Description: https://datasheet.octopart.com/PTS636-SK25F-SMTR-LFS-C%26K-Components-datasheet-166147775.pdf?src-supplier=TME
footprint SW_PTS636_SM43J_SMTR_LFS
pins: 1, 2

## RC0805FR-071KL
designator R?, comment 1k Ohm
1k Ohm, 0805, SMD Chip Resistor , ï¿½ 1%, 125 mW,[2012 Metric], Thick Film, General Purpose; Manufacturer: Yageo; Manufacturer Part Number: RC0805FR-071KL; Value: 1kR; Power Rating: 125mW; Voltage Rating: 150V; Temperature Coefficient: 100ppm/°C; Supplier: Future Electronics; Supplier Part Number: 8126013; RoHS: Yes; Category: Chip SMD Resistors; Stock: 5450000; Pricing: 5000=0.0021, 20000=0.002, 100000=0.0019, 200000=0.0018, 625000=0.0017 (USD); Case/Package: 0805; Pins: 2; Case Code (Metric): 2012; Case Code (Imperial): 0805; Min Operating Temperature: -55°C; Max Operating Temperature: 155°C; Tolerance: 1%; Packaging: Tape and Reel; Voltage Rating (DC): 150V; Resistor Type: Thick Film; Series: RC; Number of Terminations: 2; Termination: SMD/SMT; Max Power Dissipation: 125mW; Resistance Tolerance: 1%; Package Quantity: 1; Features: Moisture Resistant; Construction: Rectangular; Voltage Rating (AC): 150V; Length: 0.079inch; Width: 0.049inch; Height: 0.024inch; Depth: 1.25mm; RoHS Compliant: Yes; Reach SVHC Compliant: No; Military Standard: Not; Lead Free: Lead Free
footprint 1k 0805 Resistor (0805 Chip Resistor, 2-Leads, Body 2.1x1.35mm, IPC Low Density)
pins: 1, 2

## RC0805FR-075K1L
designator R?, comment 5.1k Ohm
5.1k Ohm, 0805, 0.125W, 150V, 1% +/-Tol, 100ppm/Cel, Surface Mount; Manufacturer: Yageo; Manufacturer Part Number: RC0805FR-075K1L; Additional Feature: LASER TRIMMABLE; Power: 125mW; Rated Temperature: 70°C; Value: 5.1kR; Temperature Coefficient (ppm/Cel): 100; Package Height: 0.5mm; Package Length: 2mm; Package Width: 1.25mm; Supplier: Future Electronics; Supplier Part Number: 5647425; RoHS: Yes; Category: Chip SMD Resistors; Stock: 15000; Pricing: 5000=0.0021, 20000=0.002, 100000=0.0019, 200000=0.0018, 625000=0.0017 (USD); Mounting Technology: Surface Mount; Pins: 2; Package Shape: Rectangular; Case/Package: 0805; Terminal Finish: Nickel; Min Operating Temperature: -55°C; Max Operating Temperature: 155°C; Tolerance: 1%; JESD-609 Code: e3; Termination: Wraparound; Resistor Type: FIXED RESISTOR; Construction: Chip; Packaging: Tape and Reel; Technology: METAL GLAZE/THICK FILM; Working Voltage: 150V; Reach SVHC Compliant: Yes; RoHS Compliant: Yes; ComponentLink1URL: https://datasheet.ciiva.com:443/pdfs/VipMasterIC/IC/YAGO/YAGO-S-A0008145938/YAGO-S-A0008145938-1.pdf?src-supplier=IHS+Markit; ComponentLink1Description: https://datasheet.ciiva.com:443/pdfs/VipMasterIC/IC/YAGO/YAGO-S-A0008145938/YAGO-S-A0008145938-1.pdf?src-supplier=IHS+Markit; ComponentLink2URL: https://datasheet.ciiva.com/11808/0900766b8106beab-11808171.pdf?src-supplier=Rs; ComponentLink2Description: https://datasheet.ciiva.com/11808/0900766b8106beab-11808171.pdf?src-supplier=Rs; ComponentLink3URL: https://datasheet.ciiva.com/2456/pyu-r-int-thick-7-2456979.pdf?src-supplier=Digikey; ComponentLink3Description: https://datasheet.ciiva.com/2456/pyu-r-int-thick-7-2456979.pdf?src-supplier=Digikey; ComponentLink4URL: https://datasheet.ciiva.com/2456/pyu-r-int-thick-7-2456980.pdf?src-supplier=Digikey; ComponentLink4Description: https://datasheet.ciiva.com/2456/pyu-r-int-thick-7-2456980.pdf?src-supplier=Digikey; ComponentLink5URL: https://datasheet.ciiva.com/15189/getdatasheetpartid-326574-15189996.pdf?src-supplier=Verical; ComponentLink5Description: https://datasheet.ciiva.com/15189/getdatasheetpartid-326574-15189996.pdf?src-supplier=Verical; ComponentLink6URL: https://datasheet.ciiva.com/2456/pyu-r-int-thick-7-2456978.pdf?src-supplier=Digikey; ComponentLink6Description: https://datasheet.ciiva.com/2456/pyu-r-int-thick-7-2456978.pdf?src-supplier=Digikey
footprint RESC2012X60N
pins: 1, 2

## RC0805FR-0710KL
designator R?, comment 10k Ohm
10 kOhm, SMD Chip Resistor, ï¿½ 1%, 125 mW, 0805 [2012 Metric], Thick Film, General Purpose; Manufacturer: Yageo; Manufacturer Part Number: RC0805FR-0710KL; Value: 10kR; Power Rating: 125mW; Voltage Rating: 150V; Temperature Coefficient: 100ppm/°C; Supplier: Future Electronics; Supplier Part Number: 3310877; RoHS: Yes; Category: Chip SMD Resistors; Stock: 15945000; Pricing: 5000=0.0021, 20000=0.002, 100000=0.0019, 200000=0.0018, 625000=0.0017 (USD); Case/Package: 0805; Case Code (Imperial): 0805; Case Code (Metric): 2012; Min Operating Temperature: -55°C; Max Operating Temperature: 155°C; Packaging: Tape and Reel; Tolerance: 1%; Termination: SMD/SMT; Number of Terminations: 2; Max Power Dissipation: 125mW; Features: Moisture Resistant; Series: RC; Resistor Type: Thick Film; Construction: Rectangular; Resistance Tolerance: 1%; Package Quantity: 1; Technology: THICK FILM; Voltage Rating (AC): 150V; Length: 0.079inch; Width: 0.049inch; Height: 0.024inch; Depth: 1.25mm; Lead Free: Lead Free; RoHS Compliant: Yes; Military Standard: Not; Reach SVHC Compliant: Unknown; ComponentLink1URL: https://datasheet.ciiva.com/11808/0900766b8106beab-11808151.pdf?src-supplier=Rs; ComponentLink1Description: https://datasheet.ciiva.com/11808/0900766b8106beab-11808151.pdf?src-supplier=Rs; ComponentLink2URL: https://datasheet.ciiva.com/46447/444164-46447563.pdf?src-supplier=Element14; ComponentLink2Description: https://datasheet.ciiva.com/46447/444164-46447563.pdf?src-supplier=Element14; ComponentLink3URL: https://datasheet.ciiva.com/2456/pyu-r-int-thick-7-2456973.pdf?src-supplier=Digikey; ComponentLink3Description: https://datasheet.ciiva.com/2456/pyu-r-int-thick-7-2456973.pdf?src-supplier=Digikey; ComponentLink4URL: https://datasheet.ciiva.com/2456/pyu-r-int-thick-7-2456974.pdf?src-supplier=Digikey; ComponentLink4Description: https://datasheet.ciiva.com/2456/pyu-r-int-thick-7-2456974.pdf?src-supplier=Digikey; ComponentLink5URL: https://datasheet.ciiva.com/2456/pyu-r-int-thick-7-2456972.pdf?src-supplier=Digikey; ComponentLink5Description: https://datasheet.ciiva.com/2456/pyu-r-int-thick-7-2456972.pdf?src-supplier=Digikey; ComponentLink6URL: https://datasheet.ciiva.com/12669/rc0805-12669688.pdf?src-supplier=Mouser; ComponentLink6Description: https://datasheet.ciiva.com/12669/rc0805-12669688.pdf?src-supplier=Mouser; ComponentLink7URL: https://datasheet.ciiva.com/16747/rc0805-16747087.pdf?src-supplier=Future+Electronics; ComponentLink7Description: https://datasheet.ciiva.com/16747/rc0805-16747087.pdf?src-supplier=Future+Electronics
footprint RESC2013X60X35ML10T20 (10k Chip Resistor, 2-Leads, Body 2.1x1.35mm, IPC Low Density)
pins: 1, 2

## RFM95W-915S2
designator U?
RFM95(W) - Low Power Long Range Transceiver Module V1.0; MP: RFM95W-915S2; Availability: Unavailable; Value: *; Package: None; Price: None
footprint RFM95W-915S2
pins: 1 GND, 2 MISO, 3 MOSI, 4 SCK, 5 NSS, 6 RESET, 7 DIO5, 8 GND, 9 ANT, 10 GND, 11 DIO3, 12 DIO4, 13 3.3V, 14 DIO0, 15 DIO1, 16 DIO2

## RT0805FRE0727RL
designator R?, comment 27Ohm
27 Ohm, Res Thin Film 0805 1% 1/8W ±50ppm/°C Molded SMD SMD Paper T/R; Manufacturer: Yageo; Manufacturer Part Number: RT0805FRE0727RL; Value: 27R; Power Rating: 125mW; Voltage Rating (DC): 150V; Supplier: Future Electronics; Supplier Part Number: 9105398; RoHS: Yes; Category: Chip SMD Resistors; Stock: 30000; Pricing: 5000=0.0055, 20000=0.0053, 50000=0.0051, 125000=0.005, 200000=0.0048 (USD); Case/Package: 0805; Pins: 2; Case Code (Metric): 2012; Case Code (Imperial): 0805; Contact Plating: Tin,Matte; Min Operating Temperature: -55°C; Max Operating Temperature: 125°C; Tolerance: 1%; Packaging: Tape and Reel; Package Quantity: 5000; Number of Terminations: 2; Temperature Coefficient: 50ppm/°C; Max Power Dissipation: 125mW; Series: RT; Voltage Rating: 150V; Resistor Type: Thin Film; Termination: SMD/SMT; Resistance Tolerance: 1%; Length: 0.079inch; Width: 0.049inch; Height: 0.024inch; RoHS Compliant: Yes; Reach SVHC Compliant: Unknown; ComponentLink1URL: https://datasheet.ciiva.com/2561/pyu-rt-1-to-0-05-rohs-l-5-2561109.pdf?src-supplier=Digikey; ComponentLink1Description: https://datasheet.ciiva.com/2561/pyu-rt-1-to-0-05-rohs-l-5-2561109.pdf?src-supplier=Digikey; ComponentLink2URL: https://datasheet.ciiva.com/8889/pyu-rt-1-to-0-05-rohs-l-4-8889865.pdf?src-supplier=Avnet; ComponentLink2Description: https://datasheet.ciiva.com/8889/pyu-rt-1-to-0-05-rohs-l-4-8889865.pdf?src-supplier=Avnet; ComponentLink3URL: https://datasheet.ciiva.com/7942/1392914-7942123.pdf?src-supplier=Element14; ComponentLink3Description: https://datasheet.ciiva.com/7942/1392914-7942123.pdf?src-supplier=Element14; ComponentLink4URL: https://datasheet.ciiva.com/7942/1392914-7942124.pdf?src-supplier=Element14; ComponentLink4Description: https://datasheet.ciiva.com/7942/1392914-7942124.pdf?src-supplier=Element14
footprint 1k 0805 Resistor (0805 Chip Resistor, 2-Leads, Body 2.1x1.35mm, IPC Low Density)
pins: 1, 2

## screw terminal
designator J?, comment Screw terminal
5.08 pitch
footprint Screw terminal (5.08 pitch)
pins: 1, 2, 3, 4

## SL2P10A
designator Q?
MOSFET, Power,P-Ch,VDSS -20V,RDS(ON) 0.031Ohm,ID -3.7A,TO-236 (SOT-23),PD 0.75W | Siliconix / Vishay SI2323DS-T1-E3; MF: Vishay Siliconix; SnapEDA_Link: https://www.snapeda.com/parts/SI2323DS-T1-E3/Vishay/view-part/?ref=snap; Package: SOT-23-3 Vishay Siliconix; Value: *; MP: SI2323DS-T1-E3; Check_prices: https://www.snapeda.com/parts/SI2323DS-T1-E3/Vishay/view-part/?ref=eda
footprint P Mosfet SL2P10A (SOT23, 3-Leads, Body 2.90x2.45mm, Pitch 0.95mm, IPC Medium Density)
pins: D, G, S

## SMA_CONNECTOR
designator J?, comment SMA
Straight SMA Connector; MP: altium_native_batch; Value: *; Package: None; Availability: Unavailable; Price: None
footprint SMA_CONNECTOR
pins: 1, GND

## SMBJ7.5CA
designator D?, comment TVS, SMBJ7.5CA
SMBJ Series 5 W 9.21 V Bi-Directional Surface Mount TVS Diode - SMB; Manufacturer: Littelfuse; Max Reverse Leakage Current: 100uA; Reverse Voltage: 7.5V; Supplier: Digikey; Supplier Part Number: SMBJ7.5CALFCT-ND; Manufacturer Part Number: SMBJ7.5CA; RoHS: Yes; Category: TVS Diodes; Stock: 3822; Pricing: 1=0.33, 10=0.215, 100=0.115, 500=0.113, 1000=0.111 (USD); ComponentLink1URL: https://datasheet.ciiva.com/15143/getdatasheetpartid-149559-15143802.pdf?src-supplier=Verical; ComponentLink1Description: https://datasheet.ciiva.com/15143/getdatasheetpartid-149559-15143802.pdf?src-supplier=Verical; ComponentLink2URL: https://datasheet.ciiva.com/16487/littelfuse-tvs-diode-smbj-16487753.pdf?src-supplier=Future+Electronics; ComponentLink2Description: https://datasheet.ciiva.com/16487/littelfuse-tvs-diode-smbj-16487753.pdf?src-supplier=Future+Electronics; ComponentLink3URL: https://datasheet.ciiva.com/331/littelfuse-tvs-diode-smbj-datasheet-pdf-331604.pdf?src-supplier=Digikey; ComponentLink3Description: https://datasheet.ciiva.com/331/littelfuse-tvs-diode-smbj-datasheet-pdf-331604.pdf?src-supplier=Digikey; ComponentLink4URL: https://datasheet.ciiva.com/331/littelfuse-tvs-diode-smbj-datasheet-pdf-331605.pdf?src-supplier=Digikey; ComponentLink4Description: https://datasheet.ciiva.com/331/littelfuse-tvs-diode-smbj-datasheet-pdf-331605.pdf?src-supplier=Digikey; ComponentLink5URL: https://datasheet.ciiva.com/331/littelfuse-tvs-diode-smbj-datasheet-pdf-331606.pdf?src-supplier=Digikey; ComponentLink5Description: https://datasheet.ciiva.com/331/littelfuse-tvs-diode-smbj-datasheet-pdf-331606.pdf?src-supplier=Digikey; ComponentLink6URL: https://datasheet.ciiva.com/331/littelfuse-tvs-diode-smbj-datasheet-pdf-331616.pdf?src-supplier=Digikey; ComponentLink6Description: https://datasheet.ciiva.com/331/littelfuse-tvs-diode-smbj-datasheet-pdf-331616.pdf?src-supplier=Digikey; ComponentLink7URL: https://datasheet.ciiva.com/331/littelfuse-tvs-diode-smbj-datasheet-pdf-331617.pdf?src-supplier=Digikey; ComponentLink7Description: https://datasheet.ciiva.com/331/littelfuse-tvs-diode-smbj-datasheet-pdf-331617.pdf?src-supplier=Digikey; ComponentLink8URL: https://datasheet.ciiva.com/8062/13057-8062350.pdf?src-supplier=Element14; ComponentLink8Description: https://datasheet.ciiva.com/8062/13057-8062350.pdf?src-supplier=Element14
footprint TVS Diode (Bi-directional)
pins: 1, 2

## SS8050-G
designator Q?, comment NPN SS8050-G
Trans Gp Bjt NPN 25V 1.5A 300MW 3-PIN SOT-23 T/r; Manufacturer: Comchip; Transition Frequency: 100MHz; Collector-emitter Voltage-Max: 400mV; Collector Base Voltage (VCBO): 40V; Collector Emitter Saturation Voltage: 500mV; Emitter Base Voltage (VEBO): 5V; hFE Min: 200; Number of Elements: 1; Supplier: Digikey; Supplier Part Number: 641-1790-1-ND; Manufacturer Part Number: SS8050-G; RoHS: Yes; Category: Transistors; Stock: 150601; Pricing: 1=0.24, 10=0.148, 100=0.0921, 500=0.06754, 1000=0.05958 (USD); Mounting Technology: Surface Mount; Case/Package: TO-236-3; Max Operating Temperature: 150°C; Packaging: Cut Tape; Max Collector Current: 1.5A; Max Power Dissipation: 300mW; Collector Emitter Breakdown Voltage: 25V; Max Breakdown Voltage: 25V; Series: -; Power Dissipation: 300mW; Height: 1.15mm; RoHS Compliant: Yes; ComponentLink1URL: http://www.comchiptech.com/admin/files/product/SS8050-G RevA181526.pdf?src-supplier=Digikey; ComponentLink1Description: http://www.comchiptech.com/admin/files/product/SS8050-G RevA181526.pdf?src-supplier=Digikey
footprint Transistor_SS8050-G
pins: 1 B, 2 E, 3 C

## TPS563201DDCR
designator U?
4.5 V to 17 V input, 3 A output, synchronous step-down converter in Eco-mode; MF: Texas Instruments; SnapEDA_Link: https://www.snapeda.com/parts/TPS563201DDCR/Texas+Instruments/view-part/?ref=snap; Package: SOT-23-THN-6 Texas Instruments; Value: *; MP: TPS563201DDCR; Check_prices: https://www.snapeda.com/parts/TPS563201DDCR/Texas+Instruments/view-part/?ref=eda
footprint TPS563201DDCR (SOT95P280X110-6N)
pins: 1 GND, 2 SW, 3 VIN, 4 VFB, 5 EN, 6 VBST

## Type-C
designator J?
USB Connector, 16 Contact(s), Female, Right Angle, Surface Mount Terminal, Locking, Receptacle; Manufacturer: Molex; Manufacturer Part Number: 217179-0001; USB Standard: USB 2.0; Current Rating: 1.25A; Number of Contacts: 16; Voltage Rating: 30V; Supplier: Avnet; Supplier Part Number: 35AJ1973; RoHS: No; Category: Connectors; Stock: 7075; Pricing: 1=1.05, 25=0.707, 100=0.609, 250=0.592, 500=0.575 (USD); Contact Material: Nickel,Gold; Min Operating Temperature: -40°C; Max Operating Temperature: 85°C; Gender: Receptacle; Height: 3.36mm
footprint Type C (FP-2171790001-MFG)
pins: A1B12 GND_A1B12, A4B9 VBUS_A4B9, A5 CC1, A6 DP1, A7 DN1, A8 SBU1, B1A12 GND_B1A12, B4A9 VBUS_B4A9, B5 CC2, B6 DP2, B7 DN2, B8 SBU2, S1 SHIELD_S1, S2 SHIELD_S2, S3 SHIELD_S3, S4 SHILED_S4
text: TYPE-C

## U.fl
designator J?
ufl connector; MP: CONUFL001-SMD-T; Package: None; Price: None; Value: *; Availability: Unavailable
footprint U.fl
pins: 1, GND

## W25Q128JVSIQ TR
designator U?, comment W25Q128JVSIQ 16MB (128Mb)
16MB (128Mb) Flash, PDSO8; Manufacturer: Winbond; Manufacturer Part Number: W25Q128JVSIQ TR; Package Body Material: Plastic; Clock Frequency: 133MHz; Density: 134217728b; Memory Width: 8; Channels: 1; Memory Size: 16777216; Number of Words Code: 16M; Operating Mode: SYNCHRONOUS; Organization: 16MX8; Parallel/Serial: SERIAL; Programming Voltage: 3V; Max Supply Voltage: 3.6V; Min Supply Voltage: 2.7V; Supplier: Digikey; Supplier Part Number: W25Q128JVSIQCT-ND; RoHS: Yes; Category: Flash; Stock: 210919; Pricing: 1=1.57, 10=1.472, 25=1.4304, 50=1.3988, 100=1.3668, 250=1.32448, 500=1.2926, 1000=1.26092, 2000=1.22957, 4000=1.19866, 6000=1.18081 (USD); Case/Package: SOP; Pins: 8; Package Shape: Square; Min Operating Temperature: -40°C; Max Operating Temperature: 85°C; Memory Format: FLASH; Type: NOR TYPE; JESD-30 Code: S-PDSO-G8; Package Style: SMALL OUTLINEMeter; Nominal Supply Voltage: 3V; Surface Mount: Yes; Technology: CMOS; Terminal Form: Gull Wing; Terminal Position: DUAL; Length: 5.23mm; Width: 5.23mm; Height - Seated (Max): 2.16mm; Terminal Pitch: 1.27mm; Temperature Grade: INDUSTRIAL; Reach SVHC Compliant: Yes; RoHS Compliant: Yes; ComponentLink1URL: https://datasheet.ciiva.com:443/pdfs/VipMasterIC/IC/WBND/WBND-S-A0002933800/WBND-S-A0002933800-1.pdf?src-supplier=IHS+Markit; ComponentLink1Description: https://datasheet.ciiva.com:443/pdfs/VipMasterIC/IC/WBND/WBND-S-A0002933800/WBND-S-A0002933800-1.pdf?src-supplier=IHS+Markit; ComponentLink2URL: http://www.winbond.com/resource-files/w25q128jv%20revf%2003272018%20plus.pdf?src-supplier=Digikey; ComponentLink2Description: http://www.winbond.com/resource-files/w25q128jv%20revf%2003272018%20plus.pdf?src-supplier=Digikey; ComponentLink3URL: http://www.winbond.com/resource-files/w25q128jv%20spi%20revc%2011162016.pdf?src-supplier=Digikey; ComponentLink3Description: http://www.winbond.com/resource-files/w25q128jv%20spi%20revc%2011162016.pdf?src-supplier=Digikey
footprint W25Q128JVSIQ (SOIC, 8-Leads, Body 5.4x5.4mm, Pitch 1.27mm, IPC Low Density)
pins: 1 ~{CS} "Chip Select Input.", 2 DO (IO1) "Data Output (Data Input Output 1).", 3 ~{WP} (IO2) "Write Protect Input (Data Input Output 2).", 4 GND "Ground.", 5 DI (IO0) "Data Input (Data Input Output 0).", 6 CLK "Serial Clock Input.", 7 ~{HOLD}/~{RESET} (IO3) "Hold or Reset Input (Data Input Output 3).", 8 VCC "Power Supply."